# Altium integrated library WS-DITV 2.54 mm small compact THT Dip Switch with raised actuator.IntLib: 11 symbols
Pins are listed as number, name and electrical type; pins without a type are passive.

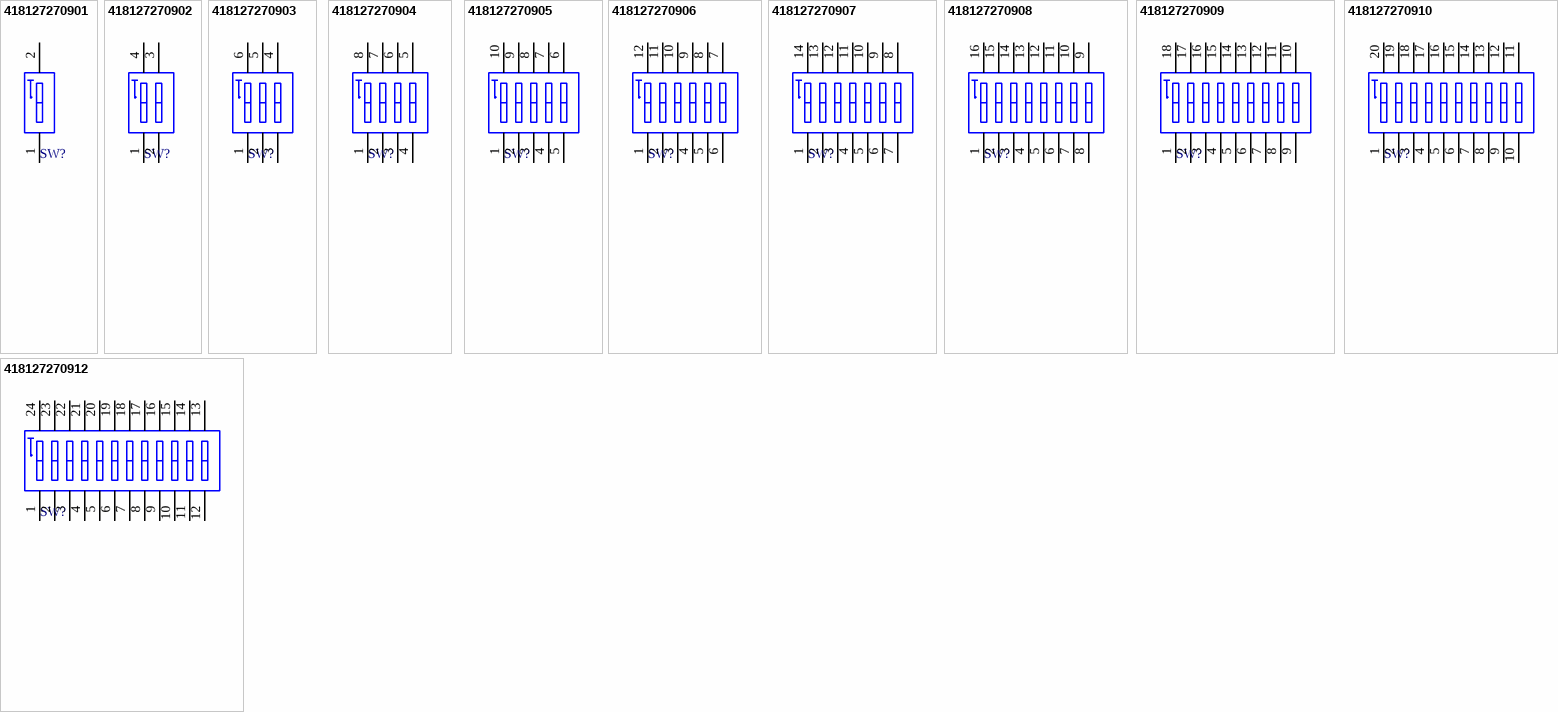
[diagram p0: symbols 418127270901 to 418127270912]

## 418127270901
designator SW?
WS-DITV 2.54 mm small compact THT Dip Switch with raised actuator; PartNumber: 418127270901; NoPins: 2; PackageReference: 418127270901; ComponentLink1Description: Manufacturer URL; ComponentLink1URL: http://www.we-online.com; ComponentLink2Description: Datasheet; ComponentLink2URL: http://katalog.we-online.de/em/datasheet/4181272709xx.pdf
footprint 418127270901 (01p, 2.54mm Pitch, Horizontal, IC Type, THT, raised Actuator, black, without Tape, Tube)
pins: 1, 2

## 418127270902
designator SW?
WS-DITV 2.54 mm small compact THT Dip Switch with raised actuator; PartNumber: 418127270902; NoPins: 4; PackageReference: 418127270902; ComponentLink1Description: Manufacturer URL; ComponentLink1URL: http://www.we-online.com; ComponentLink2Description: Datasheet; ComponentLink2URL: http://katalog.we-online.de/em/datasheet/4181272709xx.pdf
footprint 418127270902 (02p, 2.54mm Pitch, Horizontal, IC Type, THT, raised Actuator, black, without Tape, Tube)
pins: 1, 2, 3, 4

## 418127270903
designator SW?
WS-DITV 2.54 mm small compact THT Dip Switch with raised actuator; PartNumber: 418127270903; NoPins: 6; PackageReference: 418127270903; ComponentLink1Description: Manufacturer URL; ComponentLink1URL: http://www.we-online.com; ComponentLink2Description: Datasheet; ComponentLink2URL: http://katalog.we-online.de/em/datasheet/4181272709xx.pdf
footprint 418127270903 (03p, 2.54mm Pitch, Horizontal, IC Type, THT, raised Actuator, black, without Tape, Tube)
pins: 1, 2, 3, 4, 5, 6

## 418127270904
designator SW?
WS-DITV 2.54 mm small compact THT Dip Switch with raised actuator; PartNumber: 418127270904; NoPins: 8; PackageReference: 418127270904; ComponentLink1Description: Manufacturer URL; ComponentLink1URL: http://www.we-online.com; ComponentLink2Description: Datasheet; ComponentLink2URL: http://katalog.we-online.de/em/datasheet/4181272709xx.pdf
footprint 418127270904 (04p, 2.54mm Pitch, Horizontal, IC Type, THT, raised Actuator, black, without Tape, Tube)
pins: 1, 2, 3, 4, 5, 6, 7, 8

## 418127270905
designator SW?
WS-DITV 2.54 mm small compact THT Dip Switch with raised actuator; PartNumber: 418127270905; NoPins: 10; PackageReference: 418127270905; ComponentLink1Description: Manufacturer URL; ComponentLink1URL: http://www.we-online.com; ComponentLink2Description: Datasheet; ComponentLink2URL: http://katalog.we-online.de/em/datasheet/4181272709xx.pdf
footprint 418127270905 (05p, 2.54mm Pitch, Horizontal, IC Type, THT, raised Actuator, black, without Tape, Tube)
pins: 1, 2, 3, 4, 5, 6, 7, 8, 9, 10

## 418127270906
designator SW?
WS-DITV 2.54 mm small compact THT Dip Switch with raised actuator; PartNumber: 418127270906; NoPins: 12; PackageReference: 418127270906; ComponentLink1Description: Manufacturer URL; ComponentLink1URL: http://www.we-online.com; ComponentLink2Description: Datasheet; ComponentLink2URL: http://katalog.we-online.de/em/datasheet/4181272709xx.pdf
footprint 418127270906 (06p, 2.54mm Pitch, Horizontal, IC Type, THT, raised Actuator, black, without Tape, Tube)
pins: 1, 2, 3, 4, 5, 6, 7, 8, 9, 10, 11, 12

## 418127270907
designator SW?
WS-DITV 2.54 mm small compact THT Dip Switch with raised actuator; PartNumber: 418127270907; NoPins: 14; PackageReference: 418127270907; ComponentLink1Description: Manufacturer URL; ComponentLink1URL: http://www.we-online.com; ComponentLink2Description: Datasheet; ComponentLink2URL: http://katalog.we-online.de/em/datasheet/4181272709xx.pdf
footprint 418127270907 (07p, 2.54mm Pitch, Horizontal, IC Type, THT, raised Actuator, black, without Tape, Tube)
pins: 1, 2, 3, 4, 5, 6, 7, 8, 9, 10, 11, 12, 13, 14

## 418127270908
designator SW?
WS-DITV 2.54 mm small compact THT Dip Switch with raised actuator; PartNumber: 418127270908; NoPins: 16; PackageReference: 418127270908; ComponentLink1Description: Manufacturer URL; ComponentLink1URL: http://www.we-online.com; ComponentLink2Description: Datasheet; ComponentLink2URL: http://katalog.we-online.de/em/datasheet/4181272709xx.pdf
footprint 418127270908 (08p, 2.54mm Pitch, Horizontal, IC Type, THT, raised Actuator, black, without Tape, Tube)
pins: 1, 2, 3, 4, 5, 6, 7, 8, 9, 10, 11, 12, 13, 14, 15, 16

## 418127270909
designator SW?
WS-DITV 2.54 mm small compact THT Dip Switch with raised actuator; PartNumber: 418127270909; NoPins: 18; PackageReference: 418127270909; ComponentLink1Description: Manufacturer URL; ComponentLink1URL: http://www.we-online.com; ComponentLink2Description: Datasheet; ComponentLink2URL: http://katalog.we-online.de/em/datasheet/4181272709xx.pdf
footprint 418127270909 (09p, 2.54mm Pitch, Horizontal, IC Type, THT, raised Actuator, black, without Tape, Tube)
pins: 1, 2, 3, 4, 5, 6, 7, 8, 9, 10, 11, 12, 13, 14, 15, 16, 17, 18

## 418127270910
designator SW?
WS-DITV 2.54 mm small compact THT Dip Switch with raised actuator; PartNumber: 418127270910; NoPins: 20; PackageReference: 418127270910; ComponentLink1Description: Manufacturer URL; ComponentLink1URL: http://www.we-online.com; ComponentLink2Description: Datasheet; ComponentLink2URL: http://katalog.we-online.de/em/datasheet/4181272709xx.pdf
footprint 418127270910 (10p, 2.54mm Pitch, Horizontal, IC Type, THT, raised Actuator, black, without Tape, Tube)
pins: 1, 2, 3, 4, 5, 6, 7, 8, 9, 10, 11, 12, 13, 14, 15, 16, 17, 18, 19, 20

## 418127270912
designator SW?
WS-DITV 2.54 mm small compact THT Dip Switch with raised actuator; PartNumber: 418127270912; NoPins: 24; PackageReference: 418127270912; ComponentLink1Description: Manufacturer URL; ComponentLink1URL: http://www.we-online.com; ComponentLink2Description: Datasheet; ComponentLink2URL: http://katalog.we-online.de/em/datasheet/4181272709xx.pdf
footprint 418127270912 (12p, 2.54mm Pitch, Horizontal, IC Type, THT, raised Actuator, black, without Tape, Tube)
pins: 1, 2, 3, 4, 5, 6, 7, 8, 9, 10, 11, 12, 13, 14, 15, 16, 17, 18, 19, 20, 21, 22, 23, 24